# Altium schematic symbol library L.SchLib: 2 symbols
Pins are listed as number, name and electrical type; pins without a type are passive.

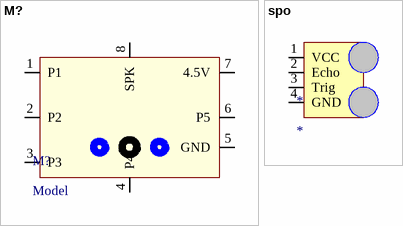
[diagram p0: symbols M? to spo]

## M?
designator M?, comment Model
积木模块
pins: 1 P1, 2 P2, 3 P3, 4 P4, 5 GND, 6 P5, 7 4.5V, 8 SPK

## spo
designator *
pins: 1 VCC, 2 Echo, 3 Trig, 4 GND